# EAGLE library part SPARKFUN_MAX1704X (library lipo_fuel_gauge-v11)
MAX17043/MAX17044: Battery Fuel Guage (43 is 1cell, 44 is 2cell)
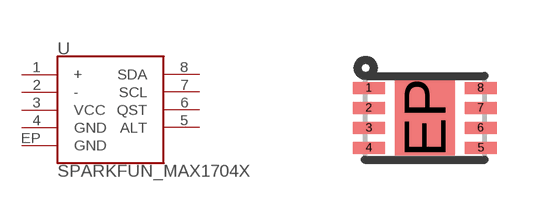
[diagram p0: symbol with the pads of SPARKFUN_TDFN-8; footprint SPARKFUN_TDFN-8]

Designator prefix U

## SPARKFUN_MAX1704X  [SPARKFUN_TDFN-8]
1  +
2  -
3  VCC
4  GND
5  ALT
6  QST
7  SCL
8  SDA
EP  GND

## Footprint SPARKFUN_TDFN-8 (pad centres in mm)
TDFN - 8pin, 2mmx3mm
smd 0.8 x 0.3: 1 -1.4,0.75; 2 -1.4,0.25; 3 -1.4,-0.25; 4 -1.4,-0.75; 5 1.4,-0.75; 6 1.4,-0.25; 7 1.4,0.25; 8 1.4,0.75
smd 1.5 x 1.88: EP 0,0